# Altium schematic symbol library SCH - POWER - LINEAR VREG - TI TPS71202-EP_DRC_10.SchLib: 1 symbol
Pins are listed as number, name and electrical type; pins without a type are passive.

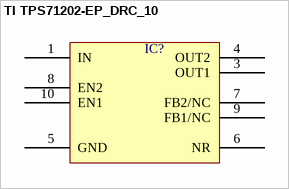
[diagram p0: symbol TI TPS71202-EP_DRC_10]

## TI TPS71202-EP_DRC_10
designator IC?  (value not drawn)
pins: 1 IN, 3 OUT1, 4 OUT2, 5 GND, 6 NR, 7 FB2/NC, 8 EN2, 9 FB1/NC, 10 EN1